# Altium footprint library BLDC_Motor_Driver.PcbLib: 122 footprints (part 4 of 8)
Each footprint in its own frame and in the unit in brackets; x right, y up, seen from the top. Pads: shape width x height; smd on the part's side, far side on the other; paste and mask are expansions set on the pad; w line width, h text height; cw(c..) or ccw(c..) is an arc to the next point about the centre after c.
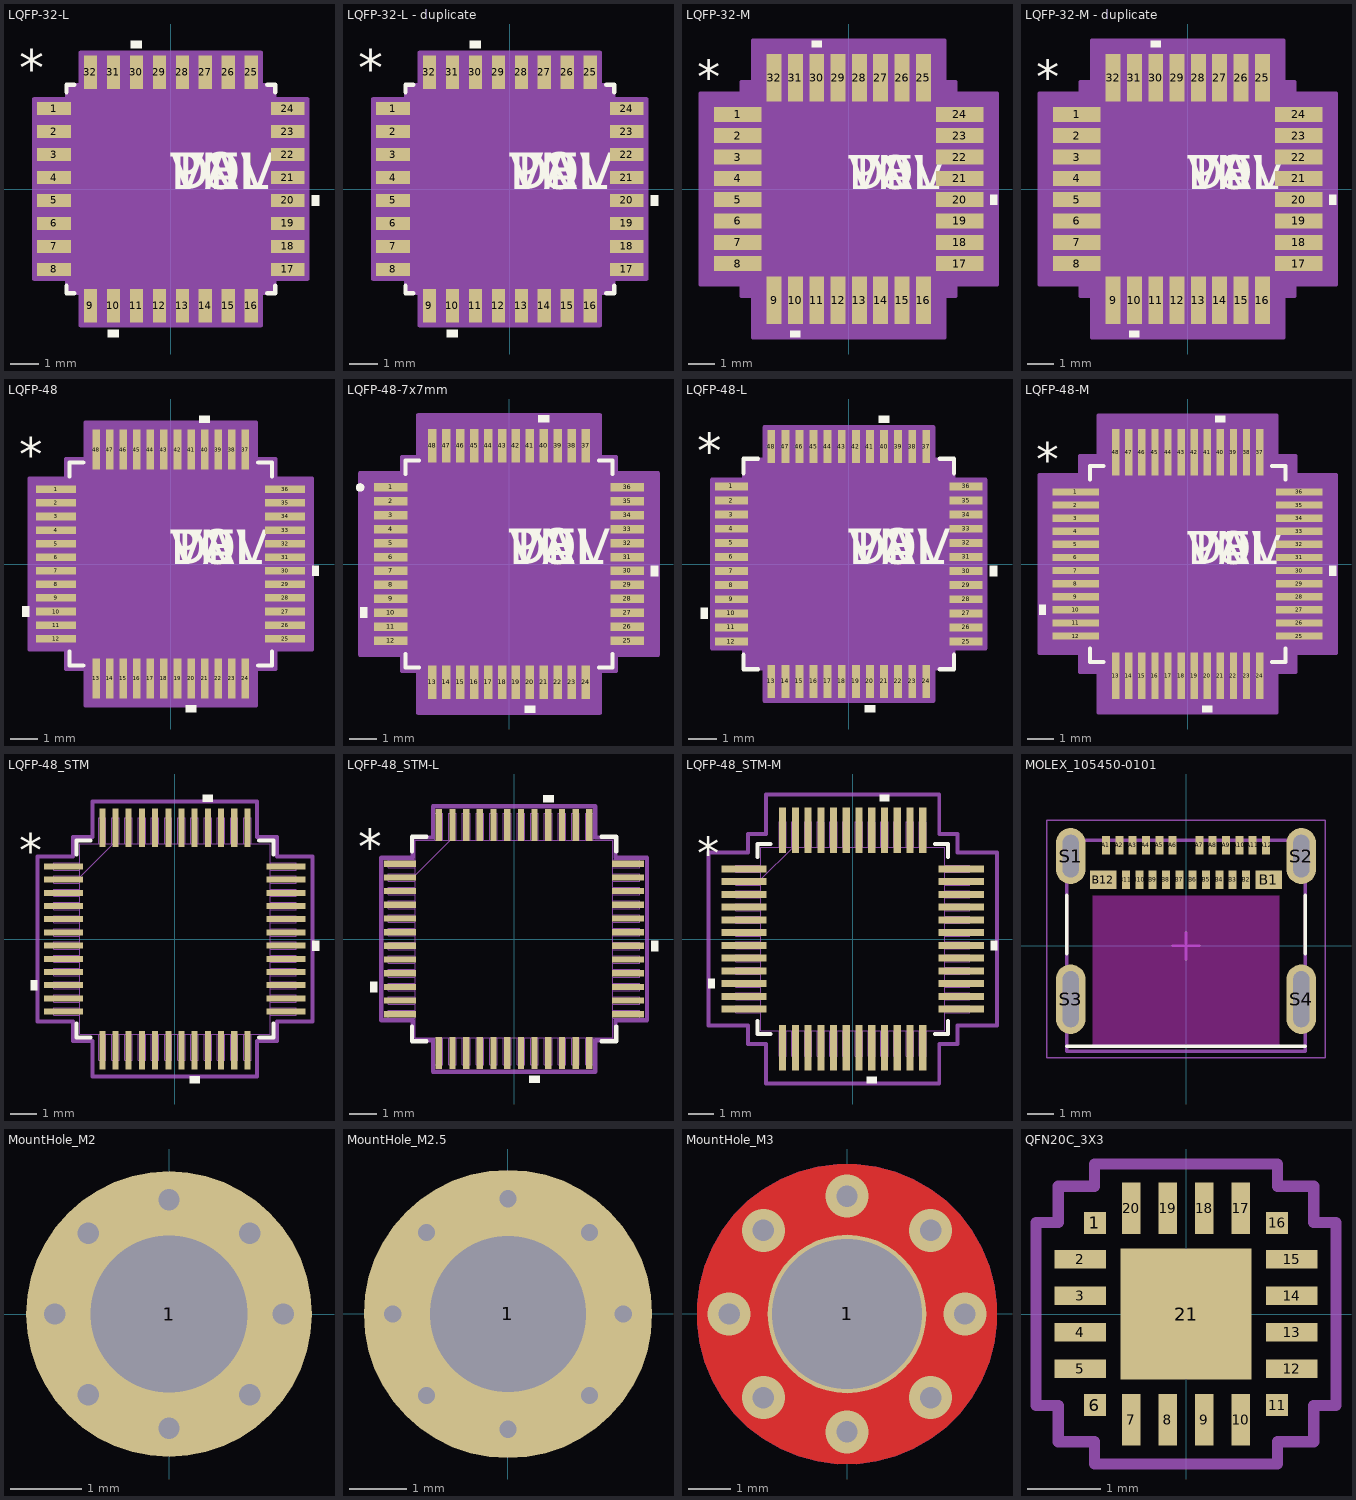
[diagram p3: the footprints below, top view; thin cyan lines are the x and y axes]

## LQFP-32-L [mil]
pads (32):
  rect 46x18 smd paste+0 mask+0: 1(-160,110.24) 2(-160,78.74) 3(-160,47.24) 4(-160,15.75) 5(-160,-15.75) 6(-160,-47.24) 7(-160,-78.74) 8(-160,-110.24) 17(160,-110.24) 18(160,-78.74) 19(160,-47.24) 20(160,-15.75) 21(160,15.75) 22(160,47.24) 23(160,78.74) 24(160,110.24)
  rect 18x46 smd paste+0 mask+0: 9(-110.24,-160) 10(-78.74,-160) 11(-47.24,-160) 12(-15.75,-160) 13(15.75,-160) 14(47.24,-160) 15(78.74,-160) 16(110.24,-160) 25(110.24,160) 26(78.74,160) 27(47.24,160) 28(15.75,160) 29(-15.75,160) 30(-47.24,160) 31(-78.74,160) 32(-110.24,160)
Top Overlay:
  region: -71.24,-193 -86.24,-193 -86.24,-203 -71.24,-203
  region: 193,-8.25 203,-8.25 203,-23.25 193,-23.25
  region: -39.74,193 -54.74,193 -54.74,203 -39.74,203
  lines w6: -143,-132.34 -143,-143 -132.34,-143 ; -143,132.34 -143,143 -132.34,143 ; 132.34,-143 143,-143 143,-132.34 ; 132.34,143 143,143 143,132.34
  text "*" at -208,140.98 h50
  text "PN" at 0,0 h50
  text "DEV" at 0,0 h50
  text "VAL" at 0,0 h50
  text "TOL" at 0,0 h50
3D Body TOP:
  text "*" at -123,125.98 h50
  text "EMA_UL_Team" at 0,0 h60
  text "RefDes2" at 0,0 h50
Courtyard TOP:
  region: -123.24,-142 -142,-142 -142,-123.24 -187,-123.24 -187,123.24 -142,123.24 -142,142 -123.24,142 -123.24,187 123.24,187 123.24,142 142,142 142,123.24 187,123.24 187,-123.24 142,-123.24 142,-142 123.24,-142 123.24,-187 -123.24,-187
  lines w6: -187,-123.24 -142,-123.24 -142,-142 -123.24,-142 -123.24,-187 123.24,-187 123.24,-142 142,-142 142,-123.24 187,-123.24 187,123.24 142,123.24 142,142 123.24,142 123.24,187 -123.24,187 -123.24,142 -142,142 -142,123.24 -187,123.24 -187,-123.24
Multi-Layer:
  text "Copyright (C) 2016 Accelerated Designs. All rights reserved" at 0,0 h1
3D body "LQFP-32-L.stp": height 63.1, standoff 0, extent -177,-177 177,177

## LQFP-32-L - duplicate [mil]
pads (32):
  rect 46x18 smd paste+0 mask+0: 1(-160,110.24) 2(-160,78.74) 3(-160,47.24) 4(-160,15.75) 5(-160,-15.75) 6(-160,-47.24) 7(-160,-78.74) 8(-160,-110.24) 17(160,-110.24) 18(160,-78.74) 19(160,-47.24) 20(160,-15.75) 21(160,15.75) 22(160,47.24) 23(160,78.74) 24(160,110.24)
  rect 18x46 smd paste+0 mask+0: 9(-110.24,-160) 10(-78.74,-160) 11(-47.24,-160) 12(-15.75,-160) 13(15.75,-160) 14(47.24,-160) 15(78.74,-160) 16(110.24,-160) 25(110.24,160) 26(78.74,160) 27(47.24,160) 28(15.75,160) 29(-15.75,160) 30(-47.24,160) 31(-78.74,160) 32(-110.24,160)
Top Overlay:
  region: -71.24,-193 -86.24,-193 -86.24,-203 -71.24,-203
  region: 193,-8.25 203,-8.25 203,-23.25 193,-23.25
  region: -39.74,193 -54.74,193 -54.74,203 -39.74,203
  lines w6: -143,-132.34 -143,-143 -132.34,-143 ; -143,132.34 -143,143 -132.34,143 ; 132.34,-143 143,-143 143,-132.34 ; 132.34,143 143,143 143,132.34
  text "*" at -208,140.98 h50
  text "PN" at 0,0 h50
  text "DEV" at 0,0 h50
  text "VAL" at 0,0 h50
  text "TOL" at 0,0 h50
3D Body TOP:
  text "*" at -123,125.98 h50
  text "RefDes2" at 0,0 h50
Courtyard TOP:
  region: -123.24,-142 -142,-142 -142,-123.24 -187,-123.24 -187,123.24 -142,123.24 -142,142 -123.24,142 -123.24,187 123.24,187 123.24,142 142,142 142,123.24 187,123.24 187,-123.24 142,-123.24 142,-142 123.24,-142 123.24,-187 -123.24,-187
  lines w6: -187,-123.24 -142,-123.24 -142,-142 -123.24,-142 -123.24,-187 123.24,-187 123.24,-142 142,-142 142,-123.24 187,-123.24 187,123.24 142,123.24 142,142 123.24,142 123.24,187 -123.24,187 -123.24,142 -142,142 -142,123.24 -187,123.24 -187,-123.24
Multi-Layer:
  text "Copyright (C) 2018 Accelerated Designs. All rights reserved" at 0,0 h1
3D body "LQFP-32-L.stp": height 63.1, standoff 0, extent -177,-177 177,177

## LQFP-32-M [mil]
pads (32):
  rect 70x22 smd paste+0 mask+0: 1(-164,110.24) 2(-164,78.74) 3(-164,47.24) 4(-164,15.75) 5(-164,-15.75) 6(-164,-47.24) 7(-164,-78.74) 8(-164,-110.24) 17(164,-110.24) 18(164,-78.74) 19(164,-47.24) 20(164,-15.75) 21(164,15.75) 22(164,47.24) 23(164,78.74) 24(164,110.24)
  rect 22x70 smd paste+0 mask+0: 9(-110.24,-164) 10(-78.74,-164) 11(-47.24,-164) 12(-15.75,-164) 13(15.75,-164) 14(47.24,-164) 15(78.74,-164) 16(110.24,-164) 25(110.24,164) 26(78.74,164) 27(47.24,164) 28(15.75,164) 29(-15.75,164) 30(-47.24,164) 31(-78.74,164) 32(-110.24,164)
Top Overlay:
  region: -39.74,209 -54.74,209 -54.74,219 -39.74,219
  region: 209,-8.25 219,-8.25 219,-23.25 209,-23.25
  region: -71.24,-209 -86.24,-209 -86.24,-219 -71.24,-219
  text "TOL" at 0,0 h50
  text "VAL" at 0,0 h50
  text "DEV" at 0,0 h50
  text "PN" at 0,0 h50
  text "*" at -224,140.98 h50
3D Body TOP:
  text "RefDes2" at 0,0 h50
  text "EMA_UL_Team" at 0,0 h60
  text "*" at -123,125.98 h50
Courtyard TOP:
  region: -141.24,-158 -158,-158 -158,-141.24 -219,-141.24 -219,141.24 -158,141.24 -158,158 -141.24,158 -141.24,219 141.24,219 141.24,158 158,158 158,141.24 219,141.24 219,-141.24 158,-141.24 158,-158 141.24,-158 141.24,-219 -141.24,-219
  lines w6: -219,-141.24 -219,141.24 -158,141.24 -158,158 -141.24,158 -141.24,219 141.24,219 141.24,158 158,158 158,141.24 219,141.24 219,-141.24 158,-141.24 158,-158 141.24,-158 141.24,-219 -141.24,-219 -141.24,-158 -158,-158 -158,-141.24 -219,-141.24
Multi-Layer:
  text "Copyright (C) 2016 Accelerated Designs. All rights reserved" at 0,0 h1
3D body "LQFP-32-M.stp": height 63.1, standoff 0, extent -177,-177 177,177

## LQFP-32-M - duplicate [mil]
pads (32):
  rect 70x22 smd paste+0 mask+0: 1(-164,110.24) 2(-164,78.74) 3(-164,47.24) 4(-164,15.75) 5(-164,-15.75) 6(-164,-47.24) 7(-164,-78.74) 8(-164,-110.24) 17(164,-110.24) 18(164,-78.74) 19(164,-47.24) 20(164,-15.75) 21(164,15.75) 22(164,47.24) 23(164,78.74) 24(164,110.24)
  rect 22x70 smd paste+0 mask+0: 9(-110.24,-164) 10(-78.74,-164) 11(-47.24,-164) 12(-15.75,-164) 13(15.75,-164) 14(47.24,-164) 15(78.74,-164) 16(110.24,-164) 25(110.24,164) 26(78.74,164) 27(47.24,164) 28(15.75,164) 29(-15.75,164) 30(-47.24,164) 31(-78.74,164) 32(-110.24,164)
Top Overlay:
  region: -39.74,209 -54.74,209 -54.74,219 -39.74,219
  region: 209,-8.25 219,-8.25 219,-23.25 209,-23.25
  region: -71.24,-209 -86.24,-209 -86.24,-219 -71.24,-219
  text "TOL" at 0,0 h50
  text "VAL" at 0,0 h50
  text "DEV" at 0,0 h50
  text "PN" at 0,0 h50
  text "*" at -224,140.98 h50
3D Body TOP:
  text "RefDes2" at 0,0 h50
  text "*" at -123,125.98 h50
Courtyard TOP:
  region: -141.24,-158 -158,-158 -158,-141.24 -219,-141.24 -219,141.24 -158,141.24 -158,158 -141.24,158 -141.24,219 141.24,219 141.24,158 158,158 158,141.24 219,141.24 219,-141.24 158,-141.24 158,-158 141.24,-158 141.24,-219 -141.24,-219
  lines w6: -219,-141.24 -219,141.24 -158,141.24 -158,158 -141.24,158 -141.24,219 141.24,219 141.24,158 158,158 158,141.24 219,141.24 219,-141.24 158,-141.24 158,-158 141.24,-158 141.24,-219 -141.24,-219 -141.24,-158 -158,-158 -158,-141.24 -219,-141.24
Multi-Layer:
  text "Copyright (C) 2018 Accelerated Designs. All rights reserved" at 0,0 h1
3D body "LQFP-32-M.stp": height 63.1, standoff 0, extent -177,-177 177,177

## LQFP-48 [mil]
pads (48):
  rect 58x11 smd paste+0 mask+0: 1(-166,108.27) 2(-166,88.58) 3(-166,68.9) 4(-166,49.21) 5(-166,29.53) 6(-166,9.84) 7(-166,-9.84) 8(-166,-29.53) 9(-166,-49.21) 10(-166,-68.9) 11(-166,-88.58) 12(-166,-108.27) 25(166,-108.27) 26(166,-88.58) 27(166,-68.9) 28(166,-49.21) 29(166,-29.53) 30(166,-9.84) 31(166,9.84) 32(166,29.53) 33(166,49.21) 34(166,68.9) 35(166,88.58) 36(166,108.27)
  rect 11x58 smd paste+0 mask+0: 13(-108.27,-166) 14(-88.58,-166) 15(-68.9,-166) 16(-49.21,-166) 17(-29.53,-166) 18(-9.84,-166) 19(9.84,-166) 20(29.53,-166) 21(49.21,-166) 22(68.9,-166) 23(88.58,-166) 24(108.27,-166) 37(108.27,166) 38(88.58,166) 39(68.9,166) 40(49.21,166) 41(29.53,166) 42(9.84,166) 43(-9.84,166) 44(-29.53,166) 45(-49.21,166) 46(-68.9,166) 47(-88.58,166) 48(-108.27,166)
Top Overlay:
  region: -205,-61.4 -215,-61.4 -215,-76.4 -205,-76.4
  region: 37.03,-205 22.03,-205 22.03,-215 37.03,-215
  region: 205,-2.34 215,-2.34 215,-17.34 205,-17.34
  region: 56.71,205 41.71,205 41.71,215 56.71,215
  lines w6: -147,-126.87 -147,-147 -126.87,-147 ; -147,126.87 -147,147 -126.87,147 ; 126.87,-147 147,-147 147,-126.87 ; 126.87,147 147,147 147,126.87
  text "*" at -220,133.11 h50
  text "PN" at 0,0 h50
  text "DEV" at 0,0 h50
  text "VAL" at 0,0 h50
  text "TOL" at 0,0 h50
3D Body TOP:
  text "*" at -127,118.11 h50
  text "EMA_UL_Team" at 0,0 h60
  text "RefDes2" at 0,0 h50
Courtyard TOP:
  region: -123.77,-152 -152,-152 -152,-123.77 -205,-123.77 -205,123.77 -152,123.77 -152,152 -123.77,152 -123.77,205 123.77,205 123.77,152 152,152 152,123.77 205,123.77 205,-123.77 152,-123.77 152,-152 123.77,-152 123.77,-205 -123.77,-205
  lines w6: -205,-123.77 -152,-123.77 -152,-152 -123.77,-152 -123.77,-205 123.77,-205 123.77,-152 152,-152 152,-123.77 205,-123.77 205,123.77 152,123.77 152,152 123.77,152 123.77,205 -123.77,205 -123.77,152 -152,152 -152,123.77 -205,123.77 -205,-123.77
Multi-Layer:
  text "Copyright (C) 2016 Accelerated Designs. All rights reserved" at 0,0 h1
3D body "LQFP-48.stp": height 63.1, standoff 0, extent -181,-181 181,181

## LQFP-48-7x7mm [mm]
pads (48):
  rect 1.194x0.305 smd paste+0 mask+0: 1(-4.25,2.75) 2(-4.25,2.25) 3(-4.25,1.75) 4(-4.25,1.25) 5(-4.25,0.75) 6(-4.25,0.25) 7(-4.25,-0.25) 8(-4.25,-0.75) 9(-4.25,-1.25) 10(-4.25,-1.75) 11(-4.25,-2.25) 12(-4.25,-2.75) 25(4.25,-2.75) 26(4.25,-2.25) 27(4.25,-1.75) 28(4.25,-1.25) 29(4.25,-0.75) 30(4.25,-0.25) 31(4.25,0.25) 32(4.25,0.75) 33(4.25,1.25) 34(4.25,1.75) 35(4.25,2.25) 36(4.25,2.75)
  rect 0.305x1.194 smd paste+0 mask+0: 13(-2.75,-4.25) 14(-2.25,-4.25) 15(-1.75,-4.25) 16(-1.25,-4.25) 17(-0.75,-4.25) 18(-0.25,-4.25) 19(0.25,-4.25) 20(0.75,-4.25) 21(1.25,-4.25) 22(1.75,-4.25) 23(2.25,-4.25) 24(2.75,-4.25) 37(2.75,4.25) 38(2.25,4.25) 39(1.75,4.25) 40(1.25,4.25) 41(0.75,4.25) 42(0.25,4.25) 43(-0.25,4.25) 44(-0.75,4.25) 45(-1.25,4.25) 46(-1.75,4.25) 47(-2.25,4.25) 48(-2.75,4.25)
Top Overlay:
  circle w0.152: c-5.351,2.75 r0.076
  region: 1.441,5.101 1.06,5.101 1.06,5.355 1.441,5.355
  region: 5.101,-0.059 5.355,-0.059 5.355,-0.44 5.101,-0.44
  region: 0.941,-5.101 0.56,-5.101 0.56,-5.355 0.941,-5.355
  region: -5.101,-1.559 -5.355,-1.559 -5.355,-1.94 -5.101,-1.94
  lines w0.152: -3.721,-3.235 -3.721,-3.721 -3.235,-3.721 ; -3.721,3.235 -3.721,3.721 -3.235,3.721 ; 3.235,-3.721 3.721,-3.721 3.721,-3.235 ; 3.235,3.721 3.721,3.721 3.721,3.235
  text "TOL" at 0,0 h1.27
  text "VAL" at 0,0 h1.27
  text "DEV" at 0,0 h1.27
  text "PN" at 0,0 h1.27
3D Body TOP:
  circle w0: c-3.018,2.75 r0.076
  text "RefDes2" at 0,0 h1.27
  text "EMA_UL_Team" at 0,0 h1.52
Courtyard TOP:
  region: -3.258,-3.848 -3.848,-3.848 -3.848,-3.258 -5.355,-3.258 -5.355,3.258 -3.848,3.258 -3.848,3.848 -3.258,3.848 -3.258,5.355 3.258,5.355 3.258,3.848 3.848,3.848 3.848,3.258 5.355,3.258 5.355,-3.258 3.848,-3.258 3.848,-3.848 3.258,-3.848 3.258,-5.355 -3.258,-5.355
  lines w0.152: -5.355,-3.258 -5.355,3.258 -3.848,3.258 -3.848,3.848 -3.258,3.848 -3.258,5.355 3.258,5.355 3.258,3.848 3.848,3.848 3.848,3.258 5.355,3.258 5.355,-3.258 3.848,-3.258 3.848,-3.848 3.258,-3.848 3.258,-5.355 -3.258,-5.355 -3.258,-3.848 -3.848,-3.848 -3.848,-3.258 -5.355,-3.258
Multi-Layer:
  text "Copyright (C) 2016 Accelerated Designs. All rights reserved" at 0,0 h0.03
3D body "LQFP48-7x7mm.stp": height 1.6, standoff 0, extent -4.497,-4.497 4.497,4.497

## LQFP-48-L [mil]
pads (48):
  rect 46x11 smd paste+0 mask+0: 1(-164,108.27) 2(-164,88.58) 3(-164,68.9) 4(-164,49.21) 5(-164,29.53) 6(-164,9.84) 7(-164,-9.84) 8(-164,-29.53) 9(-164,-49.21) 10(-164,-68.9) 11(-164,-88.58) 12(-164,-108.27) 25(164,-108.27) 26(164,-88.58) 27(164,-68.9) 28(164,-49.21) 29(164,-29.53) 30(164,-9.84) 31(164,9.84) 32(164,29.53) 33(164,49.21) 34(164,68.9) 35(164,88.58) 36(164,108.27)
  rect 11x46 smd paste+0 mask+0: 13(-108.27,-164) 14(-88.58,-164) 15(-68.9,-164) 16(-49.21,-164) 17(-29.53,-164) 18(-9.84,-164) 19(9.84,-164) 20(29.53,-164) 21(49.21,-164) 22(68.9,-164) 23(88.58,-164) 24(108.27,-164) 37(108.27,164) 38(88.58,164) 39(68.9,164) 40(49.21,164) 41(29.53,164) 42(9.84,164) 43(-9.84,164) 44(-29.53,164) 45(-49.21,164) 46(-68.9,164) 47(-88.58,164) 48(-108.27,164)
Top Overlay:
  region: 56.71,197 41.71,197 41.71,207 56.71,207
  region: 197,-2.34 207,-2.34 207,-17.34 197,-17.34
  region: 37.03,-197 22.03,-197 22.03,-207 37.03,-207
  region: -197,-61.4 -207,-61.4 -207,-76.4 -197,-76.4
  lines w6: -147,-126.87 -147,-147 -126.87,-147 ; -147,126.87 -147,147 -126.87,147 ; 126.87,-147 147,-147 147,-126.87 ; 126.87,147 147,147 147,126.87
  text "TOL" at 0,0 h50
  text "VAL" at 0,0 h50
  text "DEV" at 0,0 h50
  text "PN" at 0,0 h50
  text "*" at -212,133.11 h50
3D Body TOP:
  text "RefDes2" at 0,0 h50
  text "EMA_UL_Team" at 0,0 h60
  text "*" at -127,118.11 h50
Courtyard TOP:
  region: -117.77,-146 -146,-146 -146,-117.77 -191,-117.77 -191,117.77 -146,117.77 -146,146 -117.77,146 -117.77,191 117.77,191 117.77,146 146,146 146,117.77 191,117.77 191,-117.77 146,-117.77 146,-146 117.77,-146 117.77,-191 -117.77,-191
  lines w6: -191,-117.77 -191,117.77 -146,117.77 -146,146 -117.77,146 -117.77,191 117.77,191 117.77,146 146,146 146,117.77 191,117.77 191,-117.77 146,-117.77 146,-146 117.77,-146 117.77,-191 -117.77,-191 -117.77,-146 -146,-146 -146,-117.77 -191,-117.77
Multi-Layer:
  text "Copyright (C) 2016 Accelerated Designs. All rights reserved" at 0,0 h1
3D body "LQFP-48-L.stp": height 63.1, standoff 0, extent -181,-181 181,181

## LQFP-48-M [mil]
pads (48):
  rect 70x11 smd paste+0 mask+0: 1(-168,108.27) 2(-168,88.58) 3(-168,68.9) 4(-168,49.21) 5(-168,29.53) 6(-168,9.84) 7(-168,-9.84) 8(-168,-29.53) 9(-168,-49.21) 10(-168,-68.9) 11(-168,-88.58) 12(-168,-108.27) 25(168,-108.27) 26(168,-88.58) 27(168,-68.9) 28(168,-49.21) 29(168,-29.53) 30(168,-9.84) 31(168,9.84) 32(168,29.53) 33(168,49.21) 34(168,68.9) 35(168,88.58) 36(168,108.27)
  rect 11x70 smd paste+0 mask+0: 13(-108.27,-168) 14(-88.58,-168) 15(-68.9,-168) 16(-49.21,-168) 17(-29.53,-168) 18(-9.84,-168) 19(9.84,-168) 20(29.53,-168) 21(49.21,-168) 22(68.9,-168) 23(88.58,-168) 24(108.27,-168) 37(108.27,168) 38(88.58,168) 39(68.9,168) 40(49.21,168) 41(29.53,168) 42(9.84,168) 43(-9.84,168) 44(-29.53,168) 45(-49.21,168) 46(-68.9,168) 47(-88.58,168) 48(-108.27,168)
Top Overlay:
  region: 56.71,213 41.71,213 41.71,223 56.71,223
  region: 213,-2.34 223,-2.34 223,-17.34 213,-17.34
  region: 37.03,-213 22.03,-213 22.03,-223 37.03,-223
  region: -213,-61.4 -223,-61.4 -223,-76.4 -213,-76.4
  lines w6: -147,-126.87 -147,-147 -126.87,-147 ; -147,126.87 -147,147 -126.87,147 ; 126.87,-147 147,-147 147,-126.87 ; 126.87,147 147,147 147,126.87
  text "TOL" at 0,0 h50
  text "VAL" at 0,0 h50
  text "DEV" at 0,0 h50
  text "PN" at 0,0 h50
  text "*" at -228,133.11 h50
3D Body TOP:
  text "RefDes2" at 0,0 h50
  text "EMA_UL_Team" at 0,0 h60
  text "*" at -127,118.11 h50
Courtyard TOP:
  region: -133.77,-162 -162,-162 -162,-133.77 -223,-133.77 -223,133.77 -162,133.77 -162,162 -133.77,162 -133.77,223 133.77,223 133.77,162 162,162 162,133.77 223,133.77 223,-133.77 162,-133.77 162,-162 133.77,-162 133.77,-223 -133.77,-223
  lines w6: -223,-133.77 -223,133.77 -162,133.77 -162,162 -133.77,162 -133.77,223 133.77,223 133.77,162 162,162 162,133.77 223,133.77 223,-133.77 162,-133.77 162,-162 133.77,-162 133.77,-223 -133.77,-223 -133.77,-162 -162,-162 -162,-133.77 -223,-133.77
Multi-Layer:
  text "Copyright (C) 2016 Accelerated Designs. All rights reserved" at 0,0 h1
3D body "LQFP-48-M.stp": height 63.1, standoff 0, extent -181,-181 181,181

## LQFP-48_STM [mil]
pads (48):
  rect 58x9 smd paste+0 mask+0: 1(-166,108.27) 2(-166,88.58) 3(-166,68.9) 4(-166,49.21) 5(-166,29.53) 6(-166,9.84) 7(-166,-9.84) 8(-166,-29.53) 9(-166,-49.21) 10(-166,-68.9) 11(-166,-88.58) 12(-166,-108.27) 25(166,-108.27) 26(166,-88.58) 27(166,-68.9) 28(166,-49.21) 29(166,-29.53) 30(166,-9.84) 31(166,9.84) 32(166,29.53) 33(166,49.21) 34(166,68.9) 35(166,88.58) 36(166,108.27)
  rect 9x58 smd paste+0 mask+0: 13(-108.27,-166) 14(-88.58,-166) 15(-68.9,-166) 16(-49.21,-166) 17(-29.53,-166) 18(-9.84,-166) 19(9.84,-166) 20(29.53,-166) 21(49.21,-166) 22(68.9,-166) 23(88.58,-166) 24(108.27,-166) 37(108.27,166) 38(88.58,166) 39(68.9,166) 40(49.21,166) 41(29.53,166) 42(9.84,166) 43(-9.84,166) 44(-29.53,166) 45(-49.21,166) 46(-68.9,166) 47(-88.58,166) 48(-108.27,166)
Top Overlay:
  region: -205,-61.4 -215,-61.4 -215,-76.4 -205,-76.4
  region: 37.03,-205 22.03,-205 22.03,-215 37.03,-215
  region: 205,-2.34 215,-2.34 215,-17.34 205,-17.34
  region: 56.71,205 41.71,205 41.71,215 56.71,215
  lines w6: -147,-125.87 -147,-147 -125.87,-147 ; -147,125.87 -147,147 -125.87,147 ; 125.87,-147 147,-147 147,-125.87 ; 125.87,147 147,147 147,125.87
  text "*" at -232.5,108.11 h50
3D Body TOP:
  drawing of 197 lines, arcs and shapes, not listed
  text "*" at -139.5,93.11 h50
Courtyard TOP:
  lines w6: -205,-122.77 -152,-122.77 -152,-152 -122.77,-152 -122.77,-205 122.77,-205 122.77,-152 152,-152 152,-122.77 205,-122.77 205,122.77 152,122.77 152,152 122.77,152 122.77,205 -122.77,205 -122.77,152 -152,152 -152,122.77 -205,122.77 -205,-122.77
3D body "LQFP-48_STM.step": height 63.11, standoff 0, extent -180.98,-180.98 180.99,180.99

## LQFP-48_STM-L [mil]
pads (48):
  rect 46x9 smd paste+0 mask+0: 1(-164,108.27) 2(-164,88.58) 3(-164,68.9) 4(-164,49.21) 5(-164,29.53) 6(-164,9.84) 7(-164,-9.84) 8(-164,-29.53) 9(-164,-49.21) 10(-164,-68.9) 11(-164,-88.58) 12(-164,-108.27) 25(164,-108.27) 26(164,-88.58) 27(164,-68.9) 28(164,-49.21) 29(164,-29.53) 30(164,-9.84) 31(164,9.84) 32(164,29.53) 33(164,49.21) 34(164,68.9) 35(164,88.58) 36(164,108.27)
  rect 9x46 smd paste+0 mask+0: 13(-108.27,-164) 14(-88.58,-164) 15(-68.9,-164) 16(-49.21,-164) 17(-29.53,-164) 18(-9.84,-164) 19(9.84,-164) 20(29.53,-164) 21(49.21,-164) 22(68.9,-164) 23(88.58,-164) 24(108.27,-164) 37(108.27,164) 38(88.58,164) 39(68.9,164) 40(49.21,164) 41(29.53,164) 42(9.84,164) 43(-9.84,164) 44(-29.53,164) 45(-49.21,164) 46(-68.9,164) 47(-88.58,164) 48(-108.27,164)
Top Overlay:
  region: -197,-61.4 -207,-61.4 -207,-76.4 -197,-76.4
  region: 37.03,-197 22.03,-197 22.03,-207 37.03,-207
  region: 197,-2.34 207,-2.34 207,-17.34 197,-17.34
  region: 56.71,197 41.71,197 41.71,207 56.71,207
  lines w6: -147,-125.87 -147,-147 -125.87,-147 ; -147,125.87 -147,147 -125.87,147 ; 125.87,-147 147,-147 147,-125.87 ; 125.87,147 147,147 147,125.87
  text "*" at -224.5,108.11 h50
3D Body TOP:
  drawing of 197 lines, arcs and shapes, not listed
  text "*" at -139.5,93.11 h50
Courtyard TOP:
  lines w6: -191,-116.77 -146,-116.77 -146,-146 -116.77,-146 -116.77,-191 116.77,-191 116.77,-146 146,-146 146,-116.77 191,-116.77 191,116.77 146,116.77 146,146 116.77,146 116.77,191 -116.77,191 -116.77,146 -146,146 -146,116.77 -191,116.77 -191,-116.77
3D body "LQFP-48_STM-L.step": height 63.11, standoff 0, extent -180.98,-180.98 180.99,180.99

## LQFP-48_STM-M [mil]
pads (48):
  rect 70x11 smd paste+0 mask+0: 1(-168,108.27) 2(-168,88.58) 3(-168,68.9) 4(-168,49.21) 5(-168,29.53) 6(-168,9.84) 7(-168,-9.84) 8(-168,-29.53) 9(-168,-49.21) 10(-168,-68.9) 11(-168,-88.58) 12(-168,-108.27) 25(168,-108.27) 26(168,-88.58) 27(168,-68.9) 28(168,-49.21) 29(168,-29.53) 30(168,-9.84) 31(168,9.84) 32(168,29.53) 33(168,49.21) 34(168,68.9) 35(168,88.58) 36(168,108.27)
  rect 11x70 smd paste+0 mask+0: 13(-108.27,-168) 14(-88.58,-168) 15(-68.9,-168) 16(-49.21,-168) 17(-29.53,-168) 18(-9.84,-168) 19(9.84,-168) 20(29.53,-168) 21(49.21,-168) 22(68.9,-168) 23(88.58,-168) 24(108.27,-168) 37(108.27,168) 38(88.58,168) 39(68.9,168) 40(49.21,168) 41(29.53,168) 42(9.84,168) 43(-9.84,168) 44(-29.53,168) 45(-49.21,168) 46(-68.9,168) 47(-88.58,168) 48(-108.27,168)
Top Overlay:
  region: -213,-61.4 -223,-61.4 -223,-76.4 -213,-76.4
  region: 37.03,-213 22.03,-213 22.03,-223 37.03,-223
  region: 213,-2.34 223,-2.34 223,-17.34 213,-17.34
  region: 56.71,213 41.71,213 41.71,223 56.71,223
  lines w6: -147,-126.87 -147,-147 -126.87,-147 ; -147,126.87 -147,147 -126.87,147 ; 126.87,-147 147,-147 147,-126.87 ; 126.87,147 147,147 147,126.87
  text "*" at -240.5,108.11 h50
3D Body TOP:
  drawing of 197 lines, arcs and shapes, not listed
  text "*" at -139.5,93.11 h50
Courtyard TOP:
  lines w6: -223,-133.77 -162,-133.77 -162,-162 -133.77,-162 -133.77,-223 133.77,-223 133.77,-162 162,-162 162,-133.77 223,-133.77 223,133.77 162,133.77 162,162 133.77,162 133.77,223 -133.77,223 -133.77,162 -162,162 -162,133.77 -223,133.77 -223,-133.77
3D body "LQFP-48_STM-M.step": height 63.11, standoff 0, extent -180.98,-180.98 180.99,180.99

## MOLEX_105450-0101 [mm]
pads (28):
  rect 0.3x0.7 smd: A1(-3,3.77) A2(-2.5,3.77) A3(-2,3.77) A4(-1.5,3.77) A5(-1,3.77) A6(-0.5,3.77) A7(0.5,3.77) A8(1,3.77) A9(1.5,3.77) A10(2,3.77) A11(2.5,3.77) A12(3,3.77) B2(2.25,2.47) B3(1.75,2.47) B4(1.25,2.47) B5(0.75,2.47) B6(0.25,2.47) B7(-0.25,2.47) B8(-0.75,2.47) B9(-1.25,2.47) B10(-1.75,2.47) B11(-2.25,2.47)
  rect 1x0.7 smd: B1(3.1,2.47) B12(-3.1,2.47)
  oval 1.1x2.1 hole 0.6 slot 1.6 at 90 deg: S1(-4.32,3.36) S2(4.32,3.36)
  oval 1.1x2.6 hole 0.6 slot 2.1 at 90 deg: S3(-4.32,-2) S4(4.32,-2)
Top Overlay:
  lines w0.127: -4.47,-3.77 4.47,-3.77 ; -4.47,-0.3 -4.47,1.9 ; 4.47,-0.3 4.47,1.9
Keep-Out Layer:
  region: 3.5,-3.77 -3.5,-3.77 -3.5,1.88 3.5,1.88
3D Body TOP:
  lines w0.127: -4.47,-3.95 4.47,-3.95 4.47,3.95 -4.47,3.95 -4.47,-3.95
Courtyard TOP:
  lines w0.05: -5.22,-4.2 5.22,-4.2 5.22,4.71 -5.22,4.71 -5.22,-4.2
  lines w0.1: -0.5,0 0.5,0 ; 0,-0.5 0,0.5
3D body "1054500101.stp": height 3.23, standoff -0.73, extent -4.47,-3.95 4.47,3.95

## MountHole_M2 [mm] "Mount Hole M2"
height 0.025
pads (1):
  round 4 hole 2.2 paste-2 mask-2: 1(0,0)
via -1.131,1.131 diameter 0.605 hole 0.3
via 1.131,1.131 diameter 0.605 hole 0.3
via 1.131,-1.131 diameter 0.605 hole 0.3
via -1.131,-1.131 diameter 0.605 hole 0.3
via -1.6,0 diameter 0.605 hole 0.3
via 0,-1.6 diameter 0.605 hole 0.3
via 1.6,0 diameter 0.605 hole 0.3
via 0,1.6 diameter 0.605 hole 0.3
Top Solder:
  region: 0,2.1 0.207,2.1 0.613,2.019 0.995,1.861 1.339,1.631 1.631,1.339 1.861,0.995 2.019,0.613 2.1,0.207 2.1,0 2.1,-0.207 2.019,-0.613 1.861,-0.995 1.631,-1.339 1.339,-1.631 0.995,-1.861 0.613,-2.019 0.207,-2.1 0,-2.1 -0.207,-2.1 -0.612,-2.019 -0.995,-1.861 -1.339,-1.631 -1.631,-1.339 -1.861,-0.995 -2.019,-0.613 -2.1,-0.207 -2.1,0 -2.1,0.207 -2.019,0.613 -1.861,0.995 -1.631,1.339 -1.339,1.631 -0.995,1.861 -0.613,2.019 -0.207,2.1
Bottom Solder:
  region: 0,2.1 0.207,2.1 0.613,2.019 0.995,1.861 1.339,1.631 1.631,1.339 1.861,0.995 2.019,0.613 2.1,0.207 2.1,0 2.1,-0.207 2.019,-0.613 1.861,-0.995 1.631,-1.339 1.339,-1.631 0.995,-1.861 0.613,-2.019 0.207,-2.1 0,-2.1 -0.207,-2.1 -0.612,-2.019 -0.995,-1.861 -1.339,-1.631 -1.631,-1.339 -1.861,-0.995 -2.019,-0.613 -2.1,-0.207 -2.1,0 -2.1,0.207 -2.019,0.613 -1.861,0.995 -1.631,1.339 -1.339,1.631 -0.995,1.861 -0.613,2.019 -0.207,2.1
Courtyard TOP:
  lines w0.1: -1,0 1,0 ; 0,-1 0,1

## MountHole_M2.5 [mm] "Mount Hole M2.5"
height 0.025
pads (1):
  round 5 hole 2.7 paste-2 mask-2: 1(0,0)
via -2,0 diameter 0.605 hole 0.3
via 0,2 diameter 0.605 hole 0.3
via 0,-2 diameter 0.605 hole 0.3
via 2,0 diameter 0.605 hole 0.3
via 1.414,1.414 diameter 0.605 hole 0.3
via 1.414,-1.414 diameter 0.605 hole 0.3
via -1.414,1.414 diameter 0.605 hole 0.3
via -1.414,-1.414 diameter 0.605 hole 0.3
Top Solder:
  region: 0,2.6 0.256,2.6 0.758,2.5 1.232,2.304 1.657,2.02 2.02,1.657 2.304,1.232 2.5,0.758 2.6,0.256 2.6,0 2.6,-0.256 2.5,-0.758 2.304,-1.232 2.02,-1.657 1.657,-2.02 1.232,-2.304 0.758,-2.5 0.256,-2.6 0,-2.6 -0.256,-2.6 -0.758,-2.5 -1.232,-2.304 -1.657,-2.02 -2.02,-1.657 -2.304,-1.232 -2.5,-0.758 -2.6,-0.256 -2.6,0 -2.6,0.256 -2.5,0.758 -2.304,1.232 -2.02,1.657 -1.657,2.02 -1.232,2.304 -0.758,2.5 -0.256,2.6
Bottom Solder:
  region: 0,2.6 0.256,2.6 0.758,2.5 1.232,2.304 1.657,2.02 2.02,1.657 2.304,1.232 2.5,0.758 2.6,0.256 2.6,0 2.6,-0.256 2.5,-0.758 2.304,-1.232 2.02,-1.657 1.657,-2.02 1.232,-2.304 0.758,-2.5 0.256,-2.6 0,-2.6 -0.256,-2.6 -0.758,-2.5 -1.232,-2.304 -1.657,-2.02 -2.02,-1.657 -2.304,-1.232 -2.5,-0.758 -2.6,-0.256 -2.6,0 -2.6,0.256 -2.5,0.758 -2.304,1.232 -2.02,1.657 -1.657,2.02 -1.232,2.304 -0.758,2.5 -0.256,2.6
Courtyard TOP:
  lines w0.1: -1,0 1,0 ; 0,-1 0,1

## MountHole_M3 [mm] "Mount Hole M3"
height 0.025
pads (1):
  round 3.7 hole 3.5 paste-5 mask+1.75: 1(0,0)
via -1.95,-1.95 diameter 1 hole 0.5
via 0,-2.75 diameter 1 hole 0.5
via 1.95,-1.95 diameter 1 hole 0.5
via 2.75,0 diameter 1 hole 0.5
via 1.95,1.95 diameter 1 hole 0.5
via 0,2.75 diameter 1 hole 0.5
via -1.95,1.95 diameter 1 hole 0.5
via -2.75,0 diameter 1 hole 0.5
Top Layer:
  region: 0,3.5 0.229,3.5 0.684,3.44 1.127,3.321 1.551,3.146 1.949,2.916 2.313,2.637 2.637,2.313 2.916,1.949 3.146,1.551 3.321,1.128 3.44,0.684 3.5,0.23 3.5,0 3.5,-0.229 3.44,-0.684 3.321,-1.127 3.146,-1.551 2.916,-1.949 2.637,-2.313 2.313,-2.637 1.949,-2.916 1.551,-3.146 1.127,-3.321 0.684,-3.44 0.229,-3.5 0,-3.5 -0.23,-3.5 -0.684,-3.44 -1.128,-3.321 -1.551,-3.146 -1.949,-2.916 -2.313,-2.637 -2.637,-2.313 -2.916,-1.949 -3.146,-1.551 -3.321,-1.128 -3.44,-0.684 -3.5,-0.229 -3.5,0 -3.5,0.229 -3.44,0.684 -3.321,1.127 -3.146,1.551 -2.916,1.949 -2.637,2.313 -2.313,2.637 -1.949,2.916 -1.551,3.146 -1.127,3.321 -0.684,3.44 -0.229,3.5
Bottom Layer:
  region: 0,3.5 0.229,3.5 0.684,3.44 1.127,3.321 1.551,3.146 1.949,2.916 2.313,2.637 2.637,2.313 2.916,1.949 3.146,1.551 3.321,1.128 3.44,0.684 3.5,0.23 3.5,0 3.5,-0.229 3.44,-0.684 3.321,-1.127 3.146,-1.551 2.916,-1.949 2.637,-2.313 2.313,-2.637 1.949,-2.916 1.551,-3.146 1.127,-3.321 0.684,-3.44 0.229,-3.5 0,-3.5 -0.23,-3.5 -0.684,-3.44 -1.128,-3.321 -1.551,-3.146 -1.949,-2.916 -2.313,-2.637 -2.637,-2.313 -2.916,-1.949 -3.146,-1.551 -3.321,-1.128 -3.44,-0.684 -3.5,-0.229 -3.5,0 -3.5,0.229 -3.44,0.684 -3.321,1.127 -3.146,1.551 -2.916,1.949 -2.637,2.313 -2.313,2.637 -1.949,2.916 -1.551,3.146 -1.127,3.321 -0.684,3.44 -0.229,3.5
Courtyard TOP:
  lines w0.1: -1,0 1,0 ; 0,-1 0,1

## QFN20C_3X3 [mm]
pads (21):
  rect 0.3x0.3 smd mask+0.06: 1(-1.25,1.25) 6(-1.25,-1.25) 11(1.25,-1.25) 16(1.25,1.25)
  rect 0.705x0.25 smd mask+0.06: 2(-1.452,0.75) 3(-1.452,0.25) 4(-1.452,-0.25) 5(-1.452,-0.75) 12(1.452,-0.75) 13(1.452,-0.25) 14(1.452,0.25) 15(1.452,0.75)
  rect 0.25x0.705 smd mask+0.06: 7(-0.75,-1.452) 8(-0.25,-1.452) 9(0.25,-1.452) 10(0.75,-1.452) 17(0.75,1.452) 18(0.25,1.452) 19(-0.25,1.452) 20(-0.75,1.452)
  rect 1.8x1.8 smd paste-1 mask+0.06: 21(0,0)
Top Overlay:
  text "." at -2.032,1.397 h1.27
Top Paste:
  region: 0.1,0.85 0.1,0.1 0.85,0.1 0.85,0.85
  region: 0.85,-0.1 0.1,-0.1 0.1,-0.85 0.85,-0.85
  region: -0.1,-0.85 -0.1,-0.1 -0.85,-0.1 -0.85,-0.85
  rectangle: -0.85,0.1 -0.1,0.85
3D Body TOP:
  text "." at -1.27,1.143 h1.27
  text "'.Designator'" at -1.27,0 h1
Courtyard TOP:
  lines w0.152: -2.059,-1.258 -1.754,-1.258 -1.754,-1.754 -1.258,-1.754 -1.258,-2.059 1.258,-2.059 1.258,-1.754 1.754,-1.754 1.754,-1.258 2.059,-1.258 2.059,1.258 1.754,1.258 1.754,1.754 1.258,1.754 1.258,2.059 -1.258,2.059 -1.258,1.754 -1.754,1.754 -1.754,1.258 -2.059,1.258 -2.059,-1.258
3D body: height 0.25, standoff 0, extent 0,0 0.254,0.254
3D body "CP2102N-A02-GQFN20R--3DModel-STEP-56544.STEP": height 0.8, standoff 0, extent -1.5,-1.5 1.5,1.5